# Altium schematic symbol library SCH - MCU - RENESAS - RENESAS R7FS3A37XXXXXXFM 64LQFP.SchLib: 1 symbol
Pins are listed as number, name and electrical type; pins without a type are passive.

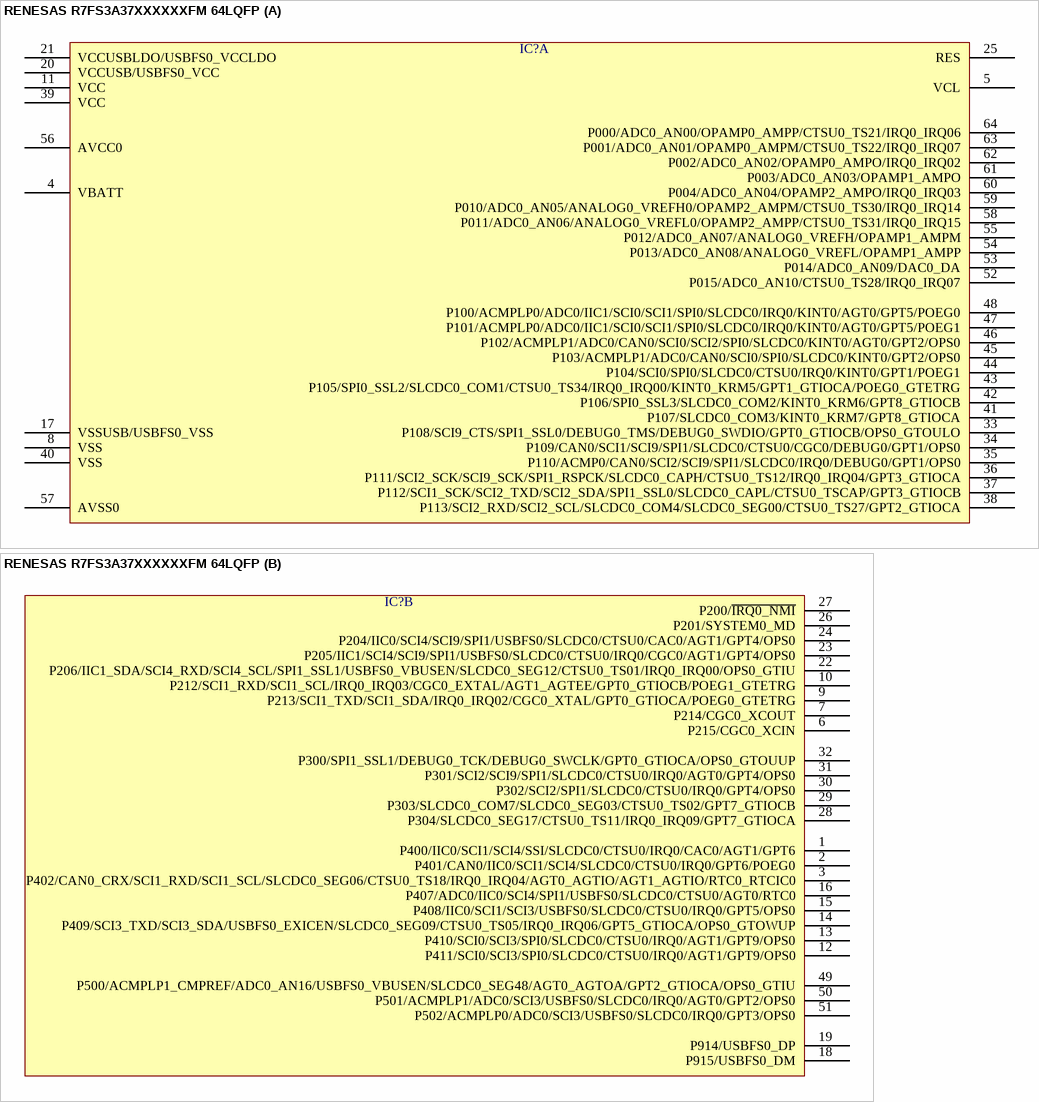
[diagram p0: symbol RENESAS R7FS3A37XXXXXXFM 64LQFP]

## RENESAS R7FS3A37XXXXXXFM 64LQFP
designator IC?  (value not drawn)
part A pins: 4 VBATT, 5 VCL, 8 VSS, 11 VCC, 17 VSSUSB/USBFS0_VSS, 20 VCCUSB/USBFS0_VCC, 21 VCCUSBLDO/USBFS0_VCCLDO, 25 RES, 33 P108/SCI9_CTS/SPI1_SSL0/DEBUG0_TMS/DEBUG0_SWDIO/GPT0_GTIOCB/OPS0_GTOULO, 34 P109/CAN0/SCI1/SCI9/SPI1/SLCDC0/CTSU0/CGC0/DEBUG0/GPT1/OPS0, 35 P110/ACMP0/CAN0/SCI2/SCI9/SPI1/SLCDC0/IRQ0/DEBUG0/GPT1/OPS0, 36 P111/SCI2_SCK/SCI9_SCK/SPI1_RSPCK/SLCDC0_CAPH/CTSU0_TS12/IRQ0_IRQ04/GPT3_GTIOCA, 37 P112/SCI1_SCK/SCI2_TXD/SCI2_SDA/SPI1_SSL0/SLCDC0_CAPL/CTSU0_TSCAP/GPT3_GTIOCB, 38 P113/SCI2_RXD/SCI2_SCL/SLCDC0_COM4/SLCDC0_SEG00/CTSU0_TS27/GPT2_GTIOCA, 39 VCC, 40 VSS, 41 P107/SLCDC0_COM3/KINT0_KRM7/GPT8_GTIOCA, 42 P106/SPI0_SSL3/SLCDC0_COM2/KINT0_KRM6/GPT8_GTIOCB, 43 P105/SPI0_SSL2/SLCDC0_COM1/CTSU0_TS34/IRQ0_IRQ00/KINT0_KRM5/GPT1_GTIOCA/POEG0_GTETRG, 44 P104/SCI0/SPI0/SLCDC0/CTSU0/IRQ0/KINT0/GPT1/POEG1, 45 P103/ACMPLP1/ADC0/CAN0/SCI0/SPI0/SLCDC0/KINT0/GPT2/OPS0, 46 P102/ACMPLP1/ADC0/CAN0/SCI0/SCI2/SPI0/SLCDC0/KINT0/AGT0/GPT2/OPS0, 47 P101/ACMPLP0/ADC0/IIC1/SCI0/SCI1/SPI0/SLCDC0/IRQ0/KINT0/AGT0/GPT5/POEG1, 48 P100/ACMPLP0/ADC0/IIC1/SCI0/SCI1/SPI0/SLCDC0/IRQ0/KINT0/AGT0/GPT5/POEG0, 52 P015/ADC0_AN10/CTSU0_TS28/IRQ0_IRQ07, 53 P014/ADC0_AN09/DAC0_DA, 54 P013/ADC0_AN08/ANALOG0_VREFL/OPAMP1_AMPP, 55 P012/ADC0_AN07/ANALOG0_VREFH/OPAMP1_AMPM, 56 AVCC0, 57 AVSS0, 58 P011/ADC0_AN06/ANALOG0_VREFL0/OPAMP2_AMPP/CTSU0_TS31/IRQ0_IRQ15, 59 P010/ADC0_AN05/ANALOG0_VREFH0/OPAMP2_AMPM/CTSU0_TS30/IRQ0_IRQ14, 60 P004/ADC0_AN04/OPAMP2_AMPO/IRQ0_IRQ03, 61 P003/ADC0_AN03/OPAMP1_AMPO, 62 P002/ADC0_AN02/OPAMP0_AMPO/IRQ0_IRQ02, 63 P001/ADC0_AN01/OPAMP0_AMPM/CTSU0_TS22/IRQ0_IRQ07, 64 P000/ADC0_AN00/OPAMP0_AMPP/CTSU0_TS21/IRQ0_IRQ06
part B pins: 1 P400/IIC0/SCI1/SCI4/SSI/SLCDC0/CTSU0/IRQ0/CAC0/AGT1/GPT6, 2 P401/CAN0/IIC0/SCI1/SCI4/SLCDC0/CTSU0/IRQ0/GPT6/POEG0, 3 P402/CAN0_CRX/SCI1_RXD/SCI1_SCL/SLCDC0_SEG06/CTSU0_TS18/IRQ0_IRQ04/AGT0_AGTIO/AGT1_AGTIO/RTC0_RTCIC0, 6 P215/CGC0_XCIN, 7 P214/CGC0_XCOUT, 9 P213/SCI1_TXD/SCI1_SDA/IRQ0_IRQ02/CGC0_XTAL/GPT0_GTIOCA/POEG0_GTETRG, 10 P212/SCI1_RXD/SCI1_SCL/IRQ0_IRQ03/CGC0_EXTAL/AGT1_AGTEE/GPT0_GTIOCB/POEG1_GTETRG, 12 P411/SCI0/SCI3/SPI0/SLCDC0/CTSU0/IRQ0/AGT1/GPT9/OPS0, 13 P410/SCI0/SCI3/SPI0/SLCDC0/CTSU0/IRQ0/AGT1/GPT9/OPS0, 14 P409/SCI3_TXD/SCI3_SDA/USBFS0_EXICEN/SLCDC0_SEG09/CTSU0_TS05/IRQ0_IRQ06/GPT5_GTIOCA/OPS0_GTOWUP, 15 P408/IIC0/SCI1/SCI3/USBFS0/SLCDC0/CTSU0/IRQ0/GPT5/OPS0, 16 P407/ADC0/IIC0/SCI4/SPI1/USBFS0/SLCDC0/CTSU0/AGT0/RTC0, 18 P915/USBFS0_DM, 19 P914/USBFS0_DP, 22 P206/IIC1_SDA/SCI4_RXD/SCI4_SCL/SPI1_SSL1/USBFS0_VBUSEN/SLCDC0_SEG12/CTSU0_TS01/IRQ0_IRQ00/OPS0_GTIU, 23 P205/IIC1/SCI4/SCI9/SPI1/USBFS0/SLCDC0/CTSU0/IRQ0/CGC0/AGT1/GPT4/OPS0, 24 P204/IIC0/SCI4/SCI9/SPI1/USBFS0/SLCDC0/CTSU0/CAC0/AGT1/GPT4/OPS0, 26 P201/SYSTEM0_MD, 27 P200/~{IRQ0_NMI}, 28 P304/SLCDC0_SEG17/CTSU0_TS11/IRQ0_IRQ09/GPT7_GTIOCA, 29 P303/SLCDC0_COM7/SLCDC0_SEG03/CTSU0_TS02/GPT7_GTIOCB, 30 P302/SCI2/SPI1/SLCDC0/CTSU0/IRQ0/GPT4/OPS0, 31 P301/SCI2/SCI9/SPI1/SLCDC0/CTSU0/IRQ0/AGT0/GPT4/OPS0, 32 P300/SPI1_SSL1/DEBUG0_TCK/DEBUG0_SWCLK/GPT0_GTIOCA/OPS0_GTOUUP, 49 P500/ACMPLP1_CMPREF/ADC0_AN16/USBFS0_VBUSEN/SLCDC0_SEG48/AGT0_AGTOA/GPT2_GTIOCA/OPS0_GTIU, 50 P501/ACMPLP1/ADC0/SCI3/USBFS0/SLCDC0/IRQ0/AGT0/GPT2/OPS0, 51 P502/ACMPLP0/ADC0/SCI3/USBFS0/SLCDC0/IRQ0/GPT3/OPS0